# Altium integrated library Atmel Microcontroller megaAVR.IntLib: 654 symbols (part 5 of 29)
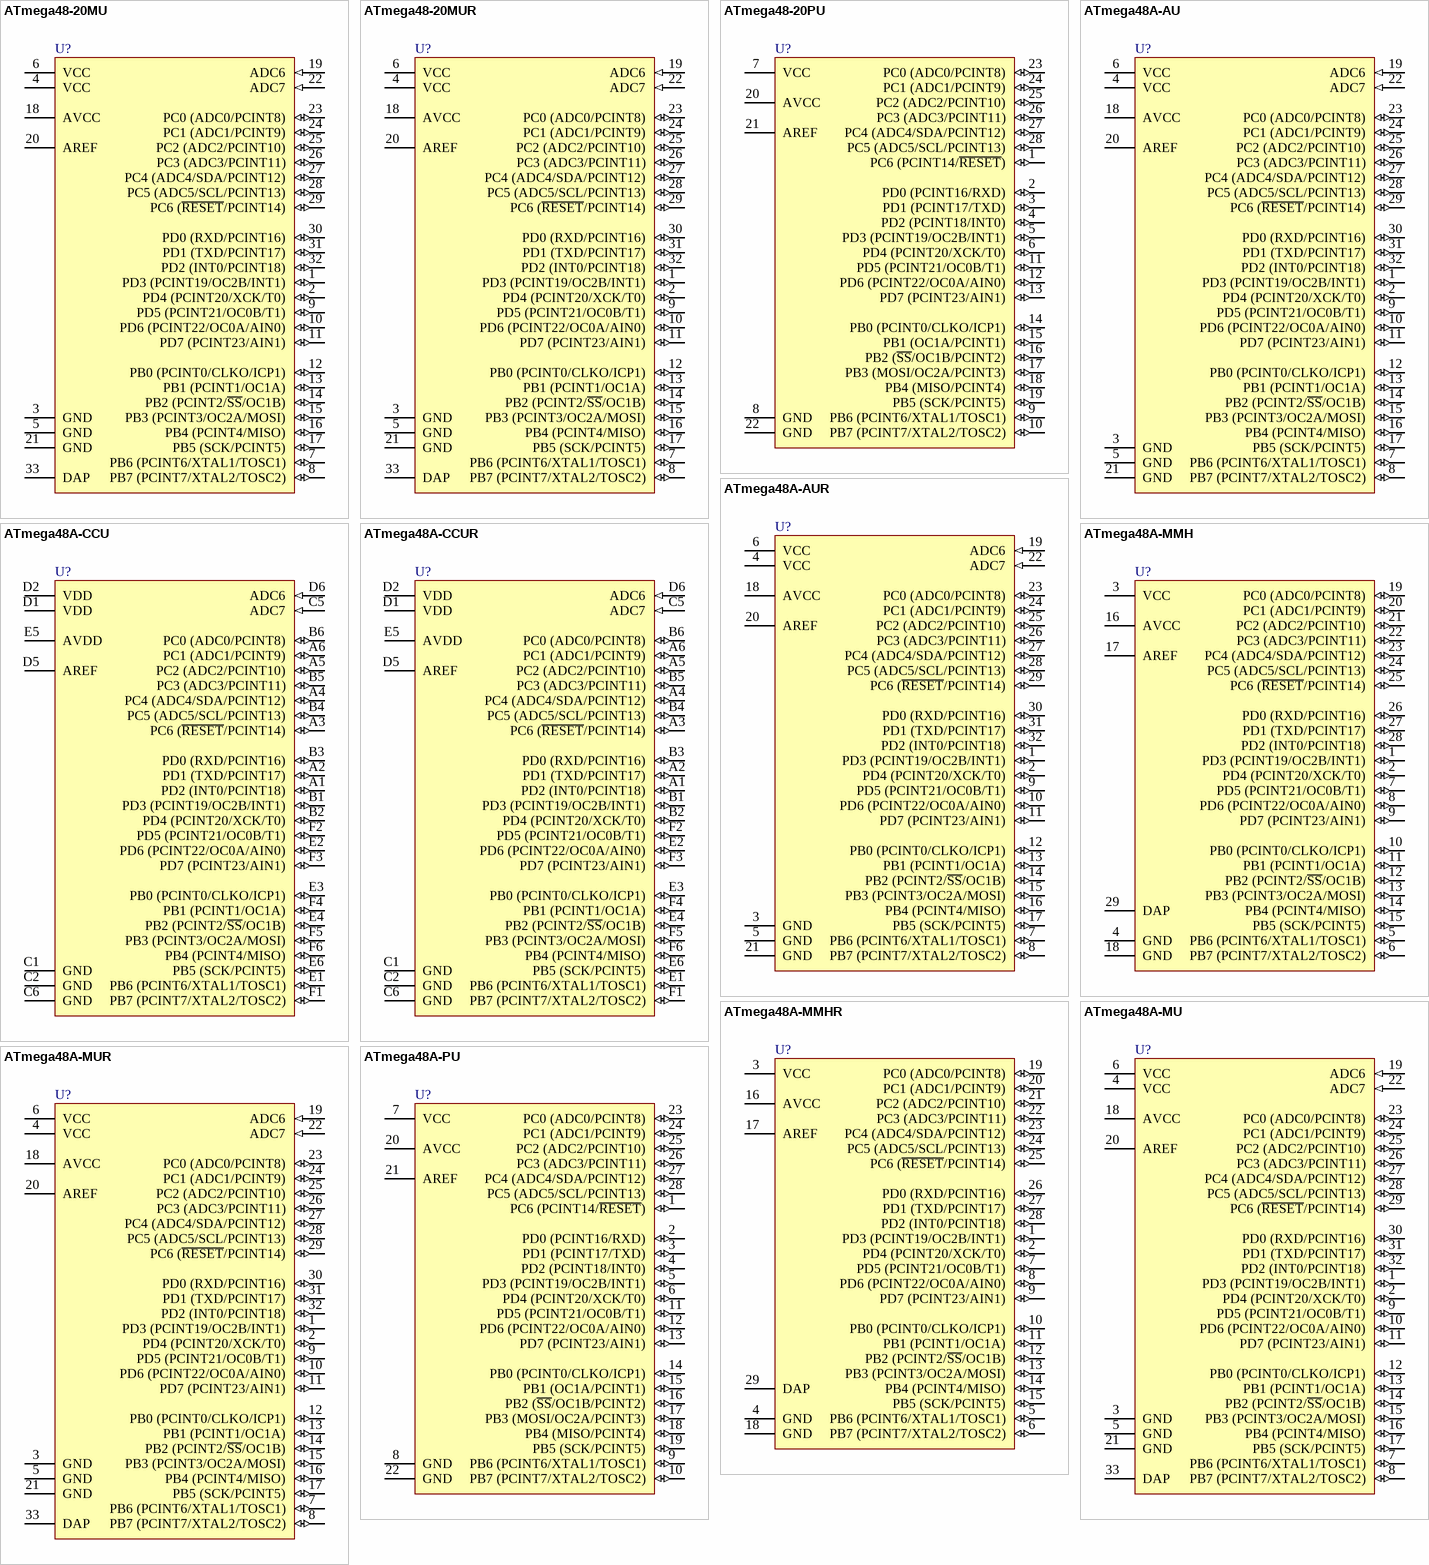
[diagram p91: symbols ATmega48-20MU to ATmega48A-PU]

## ATmega48A-MMHR
designator U?
8-bit AVR Microcontroller, 4KB Flash, 256 Bytes EEPROM, 512 Bytes SRAM, 28-pin VQFN, Industrial Grade (-40°C to 85°C), Reel; DatasheetVersion: revD, May-2011; PackageVersion: revB, Nov-2008; PackageReference: 28M1; PackageDescription: 28-pad, 4x4x1.0mm Body, Pitch 0.45mm, 2.4x2.4mm Exposed Pad, Plastic Very Thin QFN Package (VQFN); ComponentLink1Description: Manufacturer URL; ComponentLink1URL: http://www.atmel.com/; ComponentLink2Description: ATmega48A/48PA/88A/88PA/168A/168PA/328/328P Datasheet; ComponentLink2URL: http://www.atmel.com/dyn/resources/prod_documents/8271.pdf; ComponentLink3Description: ATmega48A/48PA/88A/88PA/168A/168PA/328/328P Summary; ComponentLink3URL: http://www.atmel.com/dyn/resources/prod_documents/8271S.pdf
footprint 28M1_N (QFN, 28-Leads, Body 4x4mm, Pitch 0.45mm, Thermal Pad 2.5x2.5mm, IPC Medium Density)
footprint 28M1_L (QFN, 28-Leads, Body 4x4mm, Pitch 0.45mm, Thermal Pad 2.5x2.5mm, IPC High Density)
footprint 28M1_M (QFN, 28-Leads, Body 4x4mm, Pitch 0.45mm, Thermal Pad 2.5x2.5mm, IPC Low Density)
pins: 1 PD3 (PCINT19/OC2B/INT1) (io), 2 PD4 (PCINT20/XCK/T0) (io), 3 VCC (power), 4 GND (power), 5 PB6 (PCINT6/XTAL1/TOSC1) (io), 6 PB7 (PCINT7/XTAL2/TOSC2) (io), 7 PD5 (PCINT21/OC0B/T1) (io), 8 PD6 (PCINT22/OC0A/AIN0) (io), 9 PD7 (PCINT23/AIN1) (io), 10 PB0 (PCINT0/CLKO/ICP1) (io), 11 PB1 (PCINT1/OC1A) (io), 12 PB2 (PCINT2/~{SS}/OC1B) (io), 13 PB3 (PCINT3/OC2A/MOSI) (io), 14 PB4 (PCINT4/MISO) (io), 15 PB5 (SCK/PCINT5) (io), 16 AVCC (power), 17 AREF (power), 18 GND (power), 19 PC0 (ADC0/PCINT8) (io), 20 PC1 (ADC1/PCINT9) (io), 21 PC2 (ADC2/PCINT10) (io), 22 PC3 (ADC3/PCINT11) (io), 23 PC4 (ADC4/SDA/PCINT12) (io), 24 PC5 (ADC5/SCL/PCINT13) (io), 25 PC6 (~{RESET}/PCINT14) (io), 26 PD0 (RXD/PCINT16) (io), 27 PD1 (TXD/PCINT17) (io), 28 PD2 (INT0/PCINT18) (io), 29 DAP (power)

## ATmega48A-MU
designator U?
8-bit AVR Microcontroller, 4KB Flash, 256 Bytes EEPROM, 512 Bytes SRAM, 32-pin MLF, Industrial Grade (-40°C to 85°C); DatasheetVersion: revD, May-2011; PackageVersion: revE, May-2006; PackageReference: 32M1-A; PackageDescription: 32-Pin Micro Lead Frame Package (MLF),  5 x 5 x 1.0 mm Body, Pitch 0.50 mm, 3.10mm Exposed Pad; Code_JEDEC: MO-220-VHHD-2; ComponentLink1Description: Manufacturer URL; ComponentLink1URL: http://www.atmel.com/; ComponentLink2Description: ATmega48A/48PA/88A/88PA/168A/168PA/328/328P Datasheet; ComponentLink2URL: http://www.atmel.com/dyn/resources/prod_documents/8271.pdf; ComponentLink3Description: ATmega48A/48PA/88A/88PA/168A/168PA/328/328P Summary; ComponentLink3URL: http://www.atmel.com/dyn/resources/prod_documents/8271S.pdf
footprint 32M1-A_N (QFN, 32-Leads, Body 5x5mm, Pitch 0.5mm, Thermal Pad 3.3x3.3mm, IPC Medium Density)
footprint 32M1-A_L (QFN, 32-Leads, Body 5x5mm, Pitch 0.5mm, Thermal Pad 3.3x3.3mm, IPC High Density)
footprint 32M1-A_M (QFN, 32-Leads, Body 5x5mm, Pitch 0.5mm, Thermal Pad 3.3x3.3mm, IPC Low Density)
pins: 1 PD3 (PCINT19/OC2B/INT1) (io), 2 PD4 (PCINT20/XCK/T0) (io), 3 GND (power), 4 VCC (power), 5 GND (power), 6 VCC (power), 7 PB6 (PCINT6/XTAL1/TOSC1) (io), 8 PB7 (PCINT7/XTAL2/TOSC2) (io), 9 PD5 (PCINT21/OC0B/T1) (io), 10 PD6 (PCINT22/OC0A/AIN0) (io), 11 PD7 (PCINT23/AIN1) (io), 12 PB0 (PCINT0/CLKO/ICP1) (io), 13 PB1 (PCINT1/OC1A) (io), 14 PB2 (PCINT2/~{SS}/OC1B) (io), 15 PB3 (PCINT3/OC2A/MOSI) (io), 16 PB4 (PCINT4/MISO) (io), 17 PB5 (SCK/PCINT5) (io), 18 AVCC (power), 19 ADC6 (in), 20 AREF, 21 GND (power), 22 ADC7 (in), 23 PC0 (ADC0/PCINT8) (io), 24 PC1 (ADC1/PCINT9) (io), 25 PC2 (ADC2/PCINT10) (io), 26 PC3 (ADC3/PCINT11) (io), 27 PC4 (ADC4/SDA/PCINT12) (io), 28 PC5 (ADC5/SCL/PCINT13) (io), 29 PC6 (~{RESET}/PCINT14) (io), 30 PD0 (RXD/PCINT16) (io), 31 PD1 (TXD/PCINT17) (io), 32 PD2 (INT0/PCINT18) (io), 33 DAP (power)

## ATmega48A-MUR
designator U?
8-bit AVR Microcontroller, 4KB Flash, 256 Bytes EEPROM, 512 Bytes SRAM, 32-pin MLF, Industrial Grade (-40°C to 85°C), Reel; DatasheetVersion: revD, May-2011; PackageVersion: revE, May-2006; PackageReference: 32M1-A; PackageDescription: 32-Pin Micro Lead Frame Package (MLF),  5 x 5 x 1.0 mm Body, Pitch 0.50 mm, 3.10mm Exposed Pad; Code_JEDEC: MO-220-VHHD-2; ComponentLink1Description: Manufacturer URL; ComponentLink1URL: http://www.atmel.com/; ComponentLink2Description: ATmega48A/48PA/88A/88PA/168A/168PA/328/328P Datasheet; ComponentLink2URL: http://www.atmel.com/dyn/resources/prod_documents/8271.pdf; ComponentLink3Description: ATmega48A/48PA/88A/88PA/168A/168PA/328/328P Summary; ComponentLink3URL: http://www.atmel.com/dyn/resources/prod_documents/8271S.pdf
footprint 32M1-A_N (QFN, 32-Leads, Body 5x5mm, Pitch 0.5mm, Thermal Pad 3.3x3.3mm, IPC Medium Density)
footprint 32M1-A_L (QFN, 32-Leads, Body 5x5mm, Pitch 0.5mm, Thermal Pad 3.3x3.3mm, IPC High Density)
footprint 32M1-A_M (QFN, 32-Leads, Body 5x5mm, Pitch 0.5mm, Thermal Pad 3.3x3.3mm, IPC Low Density)
pins: 1 PD3 (PCINT19/OC2B/INT1) (io), 2 PD4 (PCINT20/XCK/T0) (io), 3 GND (power), 4 VCC (power), 5 GND (power), 6 VCC (power), 7 PB6 (PCINT6/XTAL1/TOSC1) (io), 8 PB7 (PCINT7/XTAL2/TOSC2) (io), 9 PD5 (PCINT21/OC0B/T1) (io), 10 PD6 (PCINT22/OC0A/AIN0) (io), 11 PD7 (PCINT23/AIN1) (io), 12 PB0 (PCINT0/CLKO/ICP1) (io), 13 PB1 (PCINT1/OC1A) (io), 14 PB2 (PCINT2/~{SS}/OC1B) (io), 15 PB3 (PCINT3/OC2A/MOSI) (io), 16 PB4 (PCINT4/MISO) (io), 17 PB5 (SCK/PCINT5) (io), 18 AVCC (power), 19 ADC6 (in), 20 AREF, 21 GND (power), 22 ADC7 (in), 23 PC0 (ADC0/PCINT8) (io), 24 PC1 (ADC1/PCINT9) (io), 25 PC2 (ADC2/PCINT10) (io), 26 PC3 (ADC3/PCINT11) (io), 27 PC4 (ADC4/SDA/PCINT12) (io), 28 PC5 (ADC5/SCL/PCINT13) (io), 29 PC6 (~{RESET}/PCINT14) (io), 30 PD0 (RXD/PCINT16) (io), 31 PD1 (TXD/PCINT17) (io), 32 PD2 (INT0/PCINT18) (io), 33 DAP (power)

## ATmega48A-PU
designator U?
8-bit AVR Microcontroller, 4KB Flash, 256 Bytes EEPROM, 512 Bytes SRAM, 28-pin PDIP, Industrial Grade (-40°C to 85°C); DatasheetVersion: revD, May-2011; PackageVersion: revB, Sep-2001; PackageReference: 28P3; PackageDescription: 28-lead (0.300"/7.62mm Wide) Plastic Dual Inline Package (PDIP); ComponentLink1Description: Manufacturer URL; ComponentLink1URL: http://www.atmel.com/; ComponentLink2Description: ATmega48A/48PA/88A/88PA/168A/168PA/328/328P Datasheet; ComponentLink2URL: http://www.atmel.com/dyn/resources/prod_documents/8271.pdf; ComponentLink3Description: ATmega48A/48PA/88A/88PA/168A/168PA/328/328P Summary; ComponentLink3URL: http://www.atmel.com/dyn/resources/prod_documents/8271S.pdf
footprint 28P3 (DIP, 28-Leads, Row Spacing 7.62mm, Pitch 2.54mm, Body 34.67x7.3mm)
pins: 1 PC6 (PCINT14/~{RESET}) (io), 2 PD0 (PCINT16/RXD) (io), 3 PD1 (PCINT17/TXD) (io), 4 PD2 (PCINT18/INT0) (io), 5 PD3 (PCINT19/OC2B/INT1) (io), 6 PD4 (PCINT20/XCK/T0) (io), 7 VCC (power), 8 GND (power), 9 PB6 (PCINT6/XTAL1/TOSC1) (io), 10 PB7 (PCINT7/XTAL2/TOSC2) (io), 11 PD5 (PCINT21/OC0B/T1) (io), 12 PD6 (PCINT22/OC0A/AIN0) (io), 13 PD7 (PCINT23/AIN1) (io), 14 PB0 (PCINT0/CLKO/ICP1) (io), 15 PB1 (OC1A/PCINT1) (io), 16 PB2 (~{SS}/OC1B/PCINT2) (io), 17 PB3 (MOSI/OC2A/PCINT3) (io), 18 PB4 (MISO/PCINT4) (io), 19 PB5 (SCK/PCINT5) (io), 20 AVCC (power), 21 AREF (power), 22 GND (power), 23 PC0 (ADC0/PCINT8) (io), 24 PC1 (ADC1/PCINT9) (io), 25 PC2 (ADC2/PCINT10) (io), 26 PC3 (ADC3/PCINT11) (io), 27 PC4 (ADC4/SDA/PCINT12) (io), 28 PC5 (ADC5/SCL/PCINT13) (io)

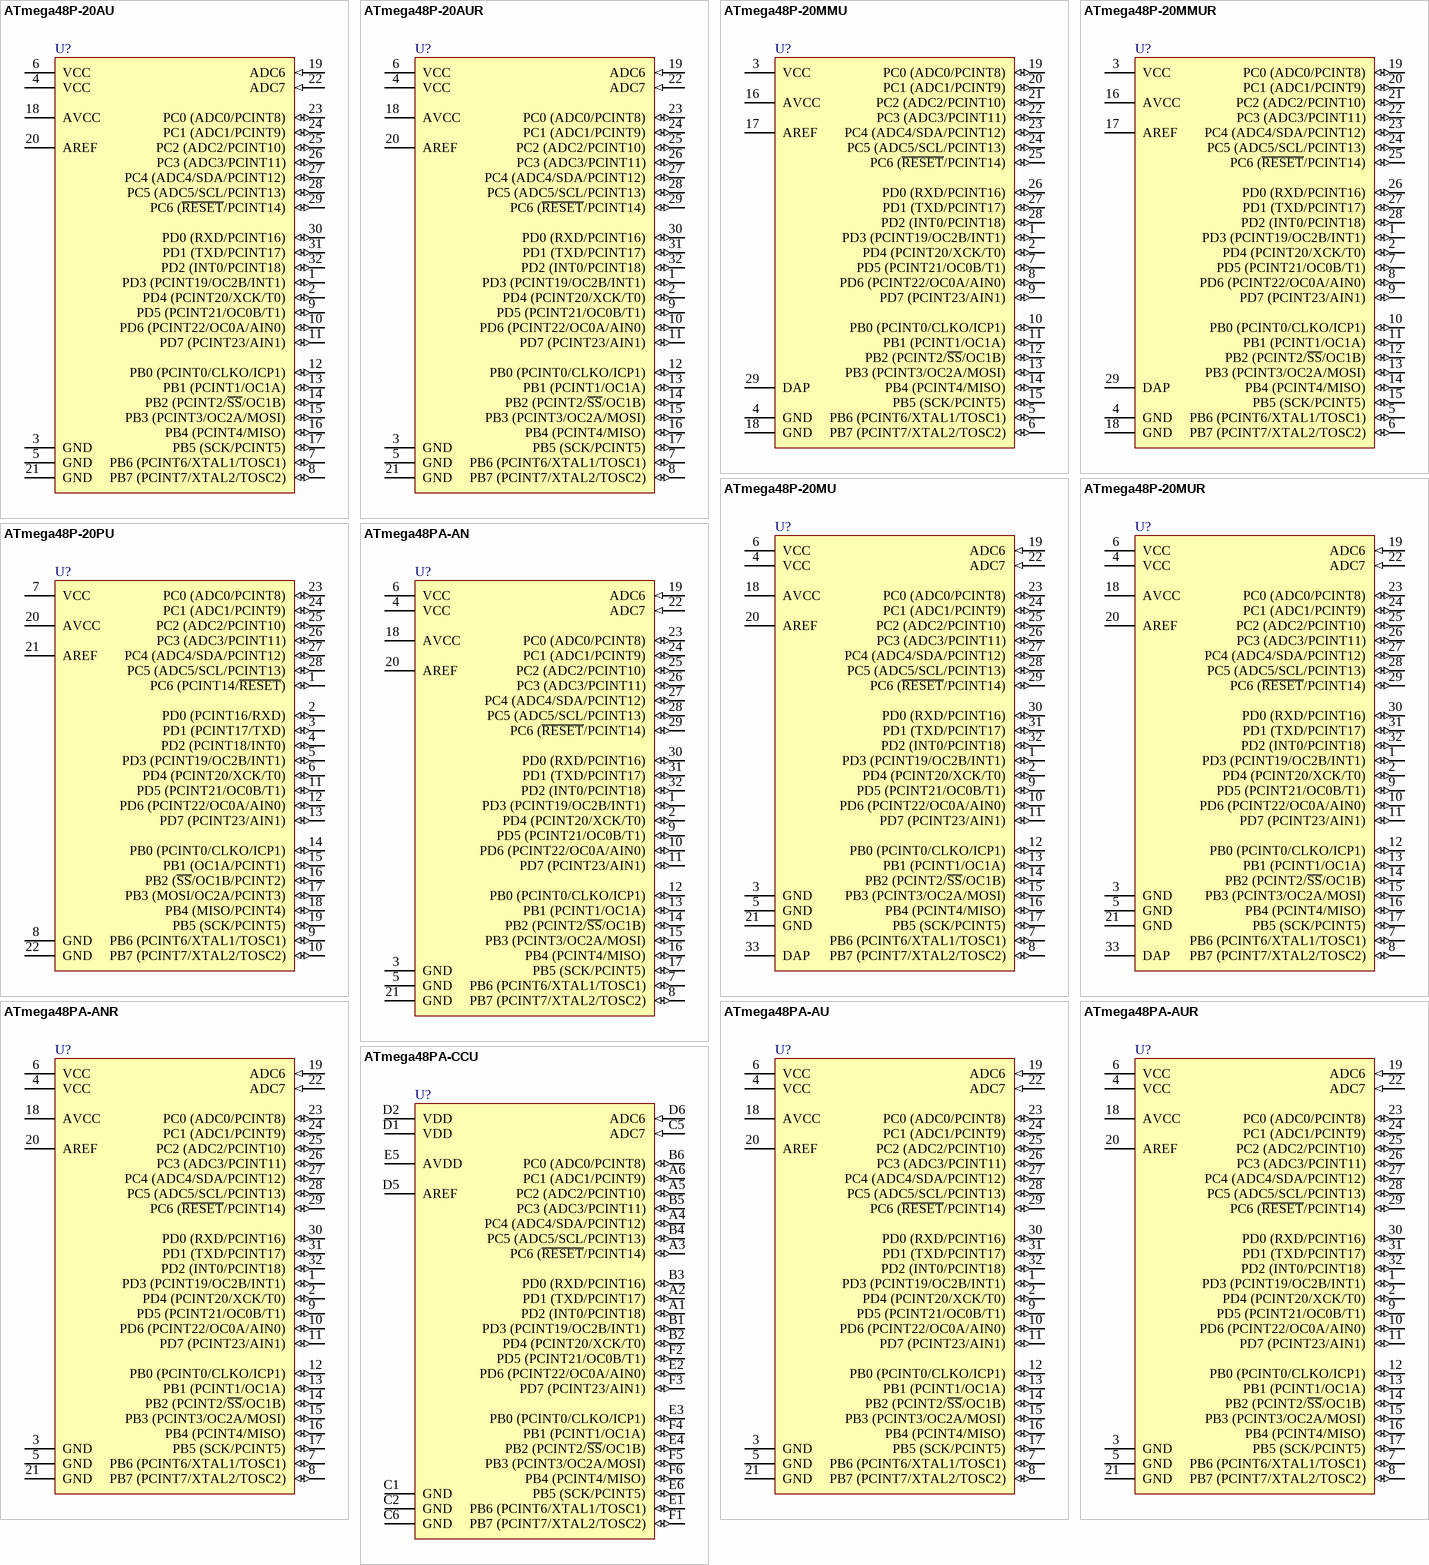
[diagram p11: symbols ATmega48P-20AU to ATmega48PA-CCU]

## ATmega48P-20AU
designator U?
8-bit AVR Microcontroller, picoPower, 2.7-5.5V, 4KB Flash, 256 Bytes EEPROM, 512 Bytes SRAM, 32-pin TQFP, Industrial Grade (-40°C to 85°C); DatasheetVersion: revM Jun-2011; PackageVersion: revC, Oct-2010; PackageReference: 32A; PackageDescription: 32-Lead, 7x7x1.0 mm Body, 0.8mm Lead Pitch, Thin Profile Plastic Quad Flat Package (TQFP); Code_JEDEC: MS-026-ABA; ComponentLink1Description: Manufacturer URL; ComponentLink1URL: http://www.atmel.com/; ComponentLink2Description: ATmega48P/88P/168P Datasheet; ComponentLink2URL: http://www.atmel.com/dyn/resources/prod_documents/doc8025.pdf; ComponentLink3Description: ATmega48P/88P/168P Summary; ComponentLink3URL: http://www.atmel.com/dyn/resources/prod_documents/8025s.pdf
footprint 32A_N (Thin QFP, 32-Leads, Body 7x7mm, Pitch 0.8mm, IPC Medium Density)
footprint 32A_L (Thin QFP, 32-Leads, Body 7x7mm, Pitch 0.8mm, IPC High Density)
footprint 32A_M (Thin QFP, 32-Leads, Body 7x7mm, Pitch 0.8mm, IPC Low Density)
pins: 1 PD3 (PCINT19/OC2B/INT1) (io), 2 PD4 (PCINT20/XCK/T0) (io), 3 GND (power), 4 VCC (power), 5 GND (power), 6 VCC (power), 7 PB6 (PCINT6/XTAL1/TOSC1) (io), 8 PB7 (PCINT7/XTAL2/TOSC2) (io), 9 PD5 (PCINT21/OC0B/T1) (io), 10 PD6 (PCINT22/OC0A/AIN0) (io), 11 PD7 (PCINT23/AIN1) (io), 12 PB0 (PCINT0/CLKO/ICP1) (io), 13 PB1 (PCINT1/OC1A) (io), 14 PB2 (PCINT2/~{SS}/OC1B) (io), 15 PB3 (PCINT3/OC2A/MOSI) (io), 16 PB4 (PCINT4/MISO) (io), 17 PB5 (SCK/PCINT5) (io), 18 AVCC (power), 19 ADC6 (in), 20 AREF, 21 GND (power), 22 ADC7 (in), 23 PC0 (ADC0/PCINT8) (io), 24 PC1 (ADC1/PCINT9) (io), 25 PC2 (ADC2/PCINT10) (io), 26 PC3 (ADC3/PCINT11) (io), 27 PC4 (ADC4/SDA/PCINT12) (io), 28 PC5 (ADC5/SCL/PCINT13) (io), 29 PC6 (~{RESET}/PCINT14) (io), 30 PD0 (RXD/PCINT16) (io), 31 PD1 (TXD/PCINT17) (io), 32 PD2 (INT0/PCINT18) (io)

## ATmega48P-20AUR
designator U?
8-bit AVR Microcontroller, picoPower, 2.7-5.5V, 4KB Flash, 256 Bytes EEPROM, 512 Bytes SRAM, 32-pin TQFP, Industrial Grade (-40°C to 85°C); DatasheetVersion: revM Jun-2011; PackageVersion: revC, Oct-2010; PackageReference: 32A; PackageDescription: 32-Lead, 7x7x1.0 mm Body, 0.8mm Lead Pitch, Thin Profile Plastic Quad Flat Package (TQFP); Code_JEDEC: MS-026-ABA; ComponentLink1Description: Manufacturer URL; ComponentLink1URL: http://www.atmel.com/; ComponentLink2Description: ATmega48P/88P/168P Datasheet; ComponentLink2URL: http://www.atmel.com/dyn/resources/prod_documents/doc8025.pdf; ComponentLink3Description: ATmega48P/88P/168P Summary; ComponentLink3URL: http://www.atmel.com/dyn/resources/prod_documents/8025s.pdf
footprint 32A_N (Thin QFP, 32-Leads, Body 7x7mm, Pitch 0.8mm, IPC Medium Density)
footprint 32A_L (Thin QFP, 32-Leads, Body 7x7mm, Pitch 0.8mm, IPC High Density)
footprint 32A_M (Thin QFP, 32-Leads, Body 7x7mm, Pitch 0.8mm, IPC Low Density)
pins: 1 PD3 (PCINT19/OC2B/INT1) (io), 2 PD4 (PCINT20/XCK/T0) (io), 3 GND (power), 4 VCC (power), 5 GND (power), 6 VCC (power), 7 PB6 (PCINT6/XTAL1/TOSC1) (io), 8 PB7 (PCINT7/XTAL2/TOSC2) (io), 9 PD5 (PCINT21/OC0B/T1) (io), 10 PD6 (PCINT22/OC0A/AIN0) (io), 11 PD7 (PCINT23/AIN1) (io), 12 PB0 (PCINT0/CLKO/ICP1) (io), 13 PB1 (PCINT1/OC1A) (io), 14 PB2 (PCINT2/~{SS}/OC1B) (io), 15 PB3 (PCINT3/OC2A/MOSI) (io), 16 PB4 (PCINT4/MISO) (io), 17 PB5 (SCK/PCINT5) (io), 18 AVCC (power), 19 ADC6 (in), 20 AREF, 21 GND (power), 22 ADC7 (in), 23 PC0 (ADC0/PCINT8) (io), 24 PC1 (ADC1/PCINT9) (io), 25 PC2 (ADC2/PCINT10) (io), 26 PC3 (ADC3/PCINT11) (io), 27 PC4 (ADC4/SDA/PCINT12) (io), 28 PC5 (ADC5/SCL/PCINT13) (io), 29 PC6 (~{RESET}/PCINT14) (io), 30 PD0 (RXD/PCINT16) (io), 31 PD1 (TXD/PCINT17) (io), 32 PD2 (INT0/PCINT18) (io)

## ATmega48P-20MMU
designator U?
8-bit AVR Microcontroller, picoPower, 2.7-5.5V, 4KB Flash, 256 Bytes EEPROM, 512 Bytes SRAM, 28-pin VQFN, Industrial Grade (-40°C to 85°C); DatasheetVersion: revM Jun-2011; PackageVersion: revB, Nov-2008; PackageReference: 28M1; PackageDescription: 28-pad, 4x4x1.0mm Body, Pitch 0.45mm, 2.4x2.4mm Exposed Pad, Plastic Very Thin QFN Package (VQFN); ComponentLink1Description: Manufacturer URL; ComponentLink1URL: http://www.atmel.com/; ComponentLink2Description: ATmega48P/88P/168P Datasheet; ComponentLink2URL: http://www.atmel.com/dyn/resources/prod_documents/doc8025.pdf; ComponentLink3Description: ATmega48P/88P/168P Summary; ComponentLink3URL: http://www.atmel.com/dyn/resources/prod_documents/8025s.pdf
footprint 28M1_N (QFN, 28-Leads, Body 4x4mm, Pitch 0.45mm, Thermal Pad 2.5x2.5mm, IPC Medium Density)
footprint 28M1_L (QFN, 28-Leads, Body 4x4mm, Pitch 0.45mm, Thermal Pad 2.5x2.5mm, IPC High Density)
footprint 28M1_M (QFN, 28-Leads, Body 4x4mm, Pitch 0.45mm, Thermal Pad 2.5x2.5mm, IPC Low Density)
pins: 1 PD3 (PCINT19/OC2B/INT1) (io), 2 PD4 (PCINT20/XCK/T0) (io), 3 VCC (power), 4 GND (power), 5 PB6 (PCINT6/XTAL1/TOSC1) (io), 6 PB7 (PCINT7/XTAL2/TOSC2) (io), 7 PD5 (PCINT21/OC0B/T1) (io), 8 PD6 (PCINT22/OC0A/AIN0) (io), 9 PD7 (PCINT23/AIN1) (io), 10 PB0 (PCINT0/CLKO/ICP1) (io), 11 PB1 (PCINT1/OC1A) (io), 12 PB2 (PCINT2/~{SS}/OC1B) (io), 13 PB3 (PCINT3/OC2A/MOSI) (io), 14 PB4 (PCINT4/MISO) (io), 15 PB5 (SCK/PCINT5) (io), 16 AVCC (power), 17 AREF (power), 18 GND (power), 19 PC0 (ADC0/PCINT8) (io), 20 PC1 (ADC1/PCINT9) (io), 21 PC2 (ADC2/PCINT10) (io), 22 PC3 (ADC3/PCINT11) (io), 23 PC4 (ADC4/SDA/PCINT12) (io), 24 PC5 (ADC5/SCL/PCINT13) (io), 25 PC6 (~{RESET}/PCINT14) (io), 26 PD0 (RXD/PCINT16) (io), 27 PD1 (TXD/PCINT17) (io), 28 PD2 (INT0/PCINT18) (io), 29 DAP (power)

## ATmega48P-20MMUR
designator U?
8-bit AVR Microcontroller, picoPower, 2.7-5.5V, 4KB Flash, 256 Bytes EEPROM, 512 Bytes SRAM, 28-pin VQFN, Industrial Grade (-40°C to 85°C); DatasheetVersion: revM Jun-2011; PackageVersion: revB, Nov-2008; PackageReference: 28M1; PackageDescription: 28-pad, 4x4x1.0mm Body, Pitch 0.45mm, 2.4x2.4mm Exposed Pad, Plastic Very Thin QFN Package (VQFN); ComponentLink1Description: Manufacturer URL; ComponentLink1URL: http://www.atmel.com/; ComponentLink2Description: ATmega48P/88P/168P Datasheet; ComponentLink2URL: http://www.atmel.com/dyn/resources/prod_documents/doc8025.pdf; ComponentLink3Description: ATmega48P/88P/168P Summary; ComponentLink3URL: http://www.atmel.com/dyn/resources/prod_documents/8025s.pdf
footprint 28M1_N (QFN, 28-Leads, Body 4x4mm, Pitch 0.45mm, Thermal Pad 2.5x2.5mm, IPC Medium Density)
footprint 28M1_L (QFN, 28-Leads, Body 4x4mm, Pitch 0.45mm, Thermal Pad 2.5x2.5mm, IPC High Density)
footprint 28M1_M (QFN, 28-Leads, Body 4x4mm, Pitch 0.45mm, Thermal Pad 2.5x2.5mm, IPC Low Density)
pins: 1 PD3 (PCINT19/OC2B/INT1) (io), 2 PD4 (PCINT20/XCK/T0) (io), 3 VCC (power), 4 GND (power), 5 PB6 (PCINT6/XTAL1/TOSC1) (io), 6 PB7 (PCINT7/XTAL2/TOSC2) (io), 7 PD5 (PCINT21/OC0B/T1) (io), 8 PD6 (PCINT22/OC0A/AIN0) (io), 9 PD7 (PCINT23/AIN1) (io), 10 PB0 (PCINT0/CLKO/ICP1) (io), 11 PB1 (PCINT1/OC1A) (io), 12 PB2 (PCINT2/~{SS}/OC1B) (io), 13 PB3 (PCINT3/OC2A/MOSI) (io), 14 PB4 (PCINT4/MISO) (io), 15 PB5 (SCK/PCINT5) (io), 16 AVCC (power), 17 AREF (power), 18 GND (power), 19 PC0 (ADC0/PCINT8) (io), 20 PC1 (ADC1/PCINT9) (io), 21 PC2 (ADC2/PCINT10) (io), 22 PC3 (ADC3/PCINT11) (io), 23 PC4 (ADC4/SDA/PCINT12) (io), 24 PC5 (ADC5/SCL/PCINT13) (io), 25 PC6 (~{RESET}/PCINT14) (io), 26 PD0 (RXD/PCINT16) (io), 27 PD1 (TXD/PCINT17) (io), 28 PD2 (INT0/PCINT18) (io), 29 DAP (power)

## ATmega48P-20MU
designator U?
8-bit AVR Microcontroller, picoPower, 2.7-5.5V, 4KB Flash, 256 Bytes EEPROM, 512 Bytes SRAM, 32-pin MLF, Industrial Grade (-40°C to 85°C); DatasheetVersion: revM Jun-2011; PackageVersion: revE, May-2006; PackageReference: 32M1-A; PackageDescription: 32-Pin Micro Lead Frame Package (MLF),  5 x 5 x 1.0 mm Body, Pitch 0.50 mm, 3.10mm Exposed Pad; Code_JEDEC: MO-220-VHHD-2; ComponentLink1Description: Manufacturer URL; ComponentLink1URL: http://www.atmel.com/; ComponentLink2Description: ATmega48P/88P/168P Datasheet; ComponentLink2URL: http://www.atmel.com/dyn/resources/prod_documents/doc8025.pdf; ComponentLink3Description: ATmega48P/88P/168P Summary; ComponentLink3URL: http://www.atmel.com/dyn/resources/prod_documents/8025s.pdf
footprint 32M1-A_N (QFN, 32-Leads, Body 5x5mm, Pitch 0.5mm, Thermal Pad 3.3x3.3mm, IPC Medium Density)
footprint 32M1-A_L (QFN, 32-Leads, Body 5x5mm, Pitch 0.5mm, Thermal Pad 3.3x3.3mm, IPC High Density)
footprint 32M1-A_M (QFN, 32-Leads, Body 5x5mm, Pitch 0.5mm, Thermal Pad 3.3x3.3mm, IPC Low Density)
pins: 1 PD3 (PCINT19/OC2B/INT1) (io), 2 PD4 (PCINT20/XCK/T0) (io), 3 GND (power), 4 VCC (power), 5 GND (power), 6 VCC (power), 7 PB6 (PCINT6/XTAL1/TOSC1) (io), 8 PB7 (PCINT7/XTAL2/TOSC2) (io), 9 PD5 (PCINT21/OC0B/T1) (io), 10 PD6 (PCINT22/OC0A/AIN0) (io), 11 PD7 (PCINT23/AIN1) (io), 12 PB0 (PCINT0/CLKO/ICP1) (io), 13 PB1 (PCINT1/OC1A) (io), 14 PB2 (PCINT2/~{SS}/OC1B) (io), 15 PB3 (PCINT3/OC2A/MOSI) (io), 16 PB4 (PCINT4/MISO) (io), 17 PB5 (SCK/PCINT5) (io), 18 AVCC (power), 19 ADC6 (in), 20 AREF, 21 GND (power), 22 ADC7 (in), 23 PC0 (ADC0/PCINT8) (io), 24 PC1 (ADC1/PCINT9) (io), 25 PC2 (ADC2/PCINT10) (io), 26 PC3 (ADC3/PCINT11) (io), 27 PC4 (ADC4/SDA/PCINT12) (io), 28 PC5 (ADC5/SCL/PCINT13) (io), 29 PC6 (~{RESET}/PCINT14) (io), 30 PD0 (RXD/PCINT16) (io), 31 PD1 (TXD/PCINT17) (io), 32 PD2 (INT0/PCINT18) (io), 33 DAP (power)

## ATmega48P-20MUR
designator U?
8-bit AVR Microcontroller, picoPower, 2.7-5.5V, 4KB Flash, 256 Bytes EEPROM, 512 Bytes SRAM, 32-pin MLF, Industrial Grade (-40°C to 85°C); DatasheetVersion: revM Jun-2011; PackageVersion: revE, May-2006; PackageReference: 32M1-A; PackageDescription: 32-Pin Micro Lead Frame Package (MLF),  5 x 5 x 1.0 mm Body, Pitch 0.50 mm, 3.10mm Exposed Pad; Code_JEDEC: MO-220-VHHD-2; ComponentLink1Description: Manufacturer URL; ComponentLink1URL: http://www.atmel.com/; ComponentLink2Description: ATmega48P/88P/168P Datasheet; ComponentLink2URL: http://www.atmel.com/dyn/resources/prod_documents/doc8025.pdf; ComponentLink3Description: ATmega48P/88P/168P Summary; ComponentLink3URL: http://www.atmel.com/dyn/resources/prod_documents/8025s.pdf
footprint 32M1-A_N (QFN, 32-Leads, Body 5x5mm, Pitch 0.5mm, Thermal Pad 3.3x3.3mm, IPC Medium Density)
footprint 32M1-A_L (QFN, 32-Leads, Body 5x5mm, Pitch 0.5mm, Thermal Pad 3.3x3.3mm, IPC High Density)
footprint 32M1-A_M (QFN, 32-Leads, Body 5x5mm, Pitch 0.5mm, Thermal Pad 3.3x3.3mm, IPC Low Density)
pins: 1 PD3 (PCINT19/OC2B/INT1) (io), 2 PD4 (PCINT20/XCK/T0) (io), 3 GND (power), 4 VCC (power), 5 GND (power), 6 VCC (power), 7 PB6 (PCINT6/XTAL1/TOSC1) (io), 8 PB7 (PCINT7/XTAL2/TOSC2) (io), 9 PD5 (PCINT21/OC0B/T1) (io), 10 PD6 (PCINT22/OC0A/AIN0) (io), 11 PD7 (PCINT23/AIN1) (io), 12 PB0 (PCINT0/CLKO/ICP1) (io), 13 PB1 (PCINT1/OC1A) (io), 14 PB2 (PCINT2/~{SS}/OC1B) (io), 15 PB3 (PCINT3/OC2A/MOSI) (io), 16 PB4 (PCINT4/MISO) (io), 17 PB5 (SCK/PCINT5) (io), 18 AVCC (power), 19 ADC6 (in), 20 AREF, 21 GND (power), 22 ADC7 (in), 23 PC0 (ADC0/PCINT8) (io), 24 PC1 (ADC1/PCINT9) (io), 25 PC2 (ADC2/PCINT10) (io), 26 PC3 (ADC3/PCINT11) (io), 27 PC4 (ADC4/SDA/PCINT12) (io), 28 PC5 (ADC5/SCL/PCINT13) (io), 29 PC6 (~{RESET}/PCINT14) (io), 30 PD0 (RXD/PCINT16) (io), 31 PD1 (TXD/PCINT17) (io), 32 PD2 (INT0/PCINT18) (io), 33 DAP (power)

## ATmega48P-20PU
designator U?
8-bit AVR Microcontroller, picoPower, 2.7-5.5V, 4KB Flash, 256 Bytes EEPROM, 512 Bytes SRAM, 28-pin PDIP, Industrial Grade (-40°C to 85°C); DatasheetVersion: revM Jun-2011; PackageVersion: revB, Sep-2001; PackageReference: 28P3; PackageDescription: 28-lead (0.300"/7.62mm Wide) Plastic Dual Inline Package (PDIP); ComponentLink1Description: Manufacturer URL; ComponentLink1URL: http://www.atmel.com/; ComponentLink2Description: ATmega48P/88P/168P Datasheet; ComponentLink2URL: http://www.atmel.com/dyn/resources/prod_documents/doc8025.pdf; ComponentLink3Description: ATmega48P/88P/168P Summary; ComponentLink3URL: http://www.atmel.com/dyn/resources/prod_documents/8025s.pdf
footprint 28P3 (DIP, 28-Leads, Row Spacing 7.62mm, Pitch 2.54mm, Body 34.67x7.3mm)
pins: 1 PC6 (PCINT14/~{RESET}) (io), 2 PD0 (PCINT16/RXD) (io), 3 PD1 (PCINT17/TXD) (io), 4 PD2 (PCINT18/INT0) (io), 5 PD3 (PCINT19/OC2B/INT1) (io), 6 PD4 (PCINT20/XCK/T0) (io), 7 VCC (power), 8 GND (power), 9 PB6 (PCINT6/XTAL1/TOSC1) (io), 10 PB7 (PCINT7/XTAL2/TOSC2) (io), 11 PD5 (PCINT21/OC0B/T1) (io), 12 PD6 (PCINT22/OC0A/AIN0) (io), 13 PD7 (PCINT23/AIN1) (io), 14 PB0 (PCINT0/CLKO/ICP1) (io), 15 PB1 (OC1A/PCINT1) (io), 16 PB2 (~{SS}/OC1B/PCINT2) (io), 17 PB3 (MOSI/OC2A/PCINT3) (io), 18 PB4 (MISO/PCINT4) (io), 19 PB5 (SCK/PCINT5) (io), 20 AVCC (power), 21 AREF (power), 22 GND (power), 23 PC0 (ADC0/PCINT8) (io), 24 PC1 (ADC1/PCINT9) (io), 25 PC2 (ADC2/PCINT10) (io), 26 PC3 (ADC3/PCINT11) (io), 27 PC4 (ADC4/SDA/PCINT12) (io), 28 PC5 (ADC5/SCL/PCINT13) (io)

## ATmega48PA-AN
designator U?
8-bit AVR Microcontroller, 4KB Flash, 256 Bytes EEPROM, 512 Bytes SRAM, 32-pin TQFP, Industrial Grade (-40°C to 105°C); DatasheetVersion: revD, May-2011; PackageVersion: revC, Oct-2010; PackageReference: 32A; PackageDescription: 32-Lead, 7x7x1.0 mm Body, 0.8mm Lead Pitch, Thin Profile Plastic Quad Flat Package (TQFP); Code_JEDEC: MS-026-ABA; ComponentLink1Description: Manufacturer URL; ComponentLink1URL: http://www.atmel.com/; ComponentLink2Description: ATmega48A/48PA/88A/88PA/168A/168PA/328/328P Datasheet; ComponentLink2URL: http://www.atmel.com/dyn/resources/prod_documents/8271.pdf; ComponentLink3Description: ATmega48A/48PA/88A/88PA/168A/168PA/328/328P Summary; ComponentLink3URL: http://www.atmel.com/dyn/resources/prod_documents/8271S.pdf
footprint 32A_N (Thin QFP, 32-Leads, Body 7x7mm, Pitch 0.8mm, IPC Medium Density)
footprint 32A_L (Thin QFP, 32-Leads, Body 7x7mm, Pitch 0.8mm, IPC High Density)
footprint 32A_M (Thin QFP, 32-Leads, Body 7x7mm, Pitch 0.8mm, IPC Low Density)
pins: 1 PD3 (PCINT19/OC2B/INT1) (io), 2 PD4 (PCINT20/XCK/T0) (io), 3 GND (power), 4 VCC (power), 5 GND (power), 6 VCC (power), 7 PB6 (PCINT6/XTAL1/TOSC1) (io), 8 PB7 (PCINT7/XTAL2/TOSC2) (io), 9 PD5 (PCINT21/OC0B/T1) (io), 10 PD6 (PCINT22/OC0A/AIN0) (io), 11 PD7 (PCINT23/AIN1) (io), 12 PB0 (PCINT0/CLKO/ICP1) (io), 13 PB1 (PCINT1/OC1A) (io), 14 PB2 (PCINT2/~{SS}/OC1B) (io), 15 PB3 (PCINT3/OC2A/MOSI) (io), 16 PB4 (PCINT4/MISO) (io), 17 PB5 (SCK/PCINT5) (io), 18 AVCC (power), 19 ADC6 (in), 20 AREF, 21 GND (power), 22 ADC7 (in), 23 PC0 (ADC0/PCINT8) (io), 24 PC1 (ADC1/PCINT9) (io), 25 PC2 (ADC2/PCINT10) (io), 26 PC3 (ADC3/PCINT11) (io), 27 PC4 (ADC4/SDA/PCINT12) (io), 28 PC5 (ADC5/SCL/PCINT13) (io), 29 PC6 (~{RESET}/PCINT14) (io), 30 PD0 (RXD/PCINT16) (io), 31 PD1 (TXD/PCINT17) (io), 32 PD2 (INT0/PCINT18) (io)

## ATmega48PA-ANR
designator U?
8-bit AVR Microcontroller, 4KB Flash, 256 Bytes EEPROM, 512 Bytes SRAM, 32-pin TQFP, Industrial Grade (-40°C to 105°C), Reel; DatasheetVersion: revD, May-2011; PackageVersion: revC, Oct-2010; PackageReference: 32A; PackageDescription: 32-Lead, 7x7x1.0 mm Body, 0.8mm Lead Pitch, Thin Profile Plastic Quad Flat Package (TQFP); Code_JEDEC: MS-026-ABA; ComponentLink1Description: Manufacturer URL; ComponentLink1URL: http://www.atmel.com/; ComponentLink2Description: ATmega48A/48PA/88A/88PA/168A/168PA/328/328P Datasheet; ComponentLink2URL: http://www.atmel.com/dyn/resources/prod_documents/8271.pdf; ComponentLink3Description: ATmega48A/48PA/88A/88PA/168A/168PA/328/328P Summary; ComponentLink3URL: http://www.atmel.com/dyn/resources/prod_documents/8271S.pdf
footprint 32A_N (Thin QFP, 32-Leads, Body 7x7mm, Pitch 0.8mm, IPC Medium Density)
footprint 32A_L (Thin QFP, 32-Leads, Body 7x7mm, Pitch 0.8mm, IPC High Density)
footprint 32A_M (Thin QFP, 32-Leads, Body 7x7mm, Pitch 0.8mm, IPC Low Density)
pins: 1 PD3 (PCINT19/OC2B/INT1) (io), 2 PD4 (PCINT20/XCK/T0) (io), 3 GND (power), 4 VCC (power), 5 GND (power), 6 VCC (power), 7 PB6 (PCINT6/XTAL1/TOSC1) (io), 8 PB7 (PCINT7/XTAL2/TOSC2) (io), 9 PD5 (PCINT21/OC0B/T1) (io), 10 PD6 (PCINT22/OC0A/AIN0) (io), 11 PD7 (PCINT23/AIN1) (io), 12 PB0 (PCINT0/CLKO/ICP1) (io), 13 PB1 (PCINT1/OC1A) (io), 14 PB2 (PCINT2/~{SS}/OC1B) (io), 15 PB3 (PCINT3/OC2A/MOSI) (io), 16 PB4 (PCINT4/MISO) (io), 17 PB5 (SCK/PCINT5) (io), 18 AVCC (power), 19 ADC6 (in), 20 AREF, 21 GND (power), 22 ADC7 (in), 23 PC0 (ADC0/PCINT8) (io), 24 PC1 (ADC1/PCINT9) (io), 25 PC2 (ADC2/PCINT10) (io), 26 PC3 (ADC3/PCINT11) (io), 27 PC4 (ADC4/SDA/PCINT12) (io), 28 PC5 (ADC5/SCL/PCINT13) (io), 29 PC6 (~{RESET}/PCINT14) (io), 30 PD0 (RXD/PCINT16) (io), 31 PD1 (TXD/PCINT17) (io), 32 PD2 (INT0/PCINT18) (io)

## ATmega48PA-AU
designator U?
8-bit AVR Microcontroller, 4KB Flash, 256 Bytes EEPROM, 512 Bytes SRAM, 32-pin TQFP, Industrial Grade (-40°C to 85°C); DatasheetVersion: revD, May-2011; PackageVersion: revC, Oct-2010; PackageReference: 32A; PackageDescription: 32-Lead, 7x7x1.0 mm Body, 0.8mm Lead Pitch, Thin Profile Plastic Quad Flat Package (TQFP); Code_JEDEC: MS-026-ABA; ComponentLink1Description: Manufacturer URL; ComponentLink1URL: http://www.atmel.com/; ComponentLink2Description: ATmega48A/48PA/88A/88PA/168A/168PA/328/328P Datasheet; ComponentLink2URL: http://www.atmel.com/dyn/resources/prod_documents/doc8271.pdf; ComponentLink3Description: ATmega48A/48PA/88A/88PA/168A/168PA/328/328P Summary; ComponentLink3URL: http://www.atmel.com/dyn/resources/prod_documents/8271S.pdf
footprint 32A_N (Thin QFP, 32-Leads, Body 7x7mm, Pitch 0.8mm, IPC Medium Density)
footprint 32A_L (Thin QFP, 32-Leads, Body 7x7mm, Pitch 0.8mm, IPC High Density)
footprint 32A_M (Thin QFP, 32-Leads, Body 7x7mm, Pitch 0.8mm, IPC Low Density)
pins: 1 PD3 (PCINT19/OC2B/INT1) (io), 2 PD4 (PCINT20/XCK/T0) (io), 3 GND (power), 4 VCC (power), 5 GND (power), 6 VCC (power), 7 PB6 (PCINT6/XTAL1/TOSC1) (io), 8 PB7 (PCINT7/XTAL2/TOSC2) (io), 9 PD5 (PCINT21/OC0B/T1) (io), 10 PD6 (PCINT22/OC0A/AIN0) (io), 11 PD7 (PCINT23/AIN1) (io), 12 PB0 (PCINT0/CLKO/ICP1) (io), 13 PB1 (PCINT1/OC1A) (io), 14 PB2 (PCINT2/~{SS}/OC1B) (io), 15 PB3 (PCINT3/OC2A/MOSI) (io), 16 PB4 (PCINT4/MISO) (io), 17 PB5 (SCK/PCINT5) (io), 18 AVCC (power), 19 ADC6 (in), 20 AREF, 21 GND (power), 22 ADC7 (in), 23 PC0 (ADC0/PCINT8) (io), 24 PC1 (ADC1/PCINT9) (io), 25 PC2 (ADC2/PCINT10) (io), 26 PC3 (ADC3/PCINT11) (io), 27 PC4 (ADC4/SDA/PCINT12) (io), 28 PC5 (ADC5/SCL/PCINT13) (io), 29 PC6 (~{RESET}/PCINT14) (io), 30 PD0 (RXD/PCINT16) (io), 31 PD1 (TXD/PCINT17) (io), 32 PD2 (INT0/PCINT18) (io)

## ATmega48PA-AUR
designator U?
8-bit AVR Microcontroller, 4KB Flash, 256 Bytes EEPROM, 512 Bytes SRAM, 32-pin TQFP, Industrial Grade (-40°C to 85°C), Reel; DatasheetVersion: revD, May-2011; PackageVersion: revC, Oct-2010; PackageReference: 32A; PackageDescription: 32-Lead, 7x7x1.0 mm Body, 0.8mm Lead Pitch, Thin Profile Plastic Quad Flat Package (TQFP); Code_JEDEC: MS-026-ABA; ComponentLink1Description: Manufacturer URL; ComponentLink1URL: http://www.atmel.com/; ComponentLink2Description: ATmega48A/48PA/88A/88PA/168A/168PA/328/328P Datasheet; ComponentLink2URL: http://www.atmel.com/dyn/resources/prod_documents/doc8271.pdf; ComponentLink3Description: ATmega48A/48PA/88A/88PA/168A/168PA/328/328P Summary; ComponentLink3URL: http://www.atmel.com/dyn/resources/prod_documents/8271S.pdf
footprint 32A_N (Thin QFP, 32-Leads, Body 7x7mm, Pitch 0.8mm, IPC Medium Density)
footprint 32A_L (Thin QFP, 32-Leads, Body 7x7mm, Pitch 0.8mm, IPC High Density)
footprint 32A_M (Thin QFP, 32-Leads, Body 7x7mm, Pitch 0.8mm, IPC Low Density)
pins: 1 PD3 (PCINT19/OC2B/INT1) (io), 2 PD4 (PCINT20/XCK/T0) (io), 3 GND (power), 4 VCC (power), 5 GND (power), 6 VCC (power), 7 PB6 (PCINT6/XTAL1/TOSC1) (io), 8 PB7 (PCINT7/XTAL2/TOSC2) (io), 9 PD5 (PCINT21/OC0B/T1) (io), 10 PD6 (PCINT22/OC0A/AIN0) (io), 11 PD7 (PCINT23/AIN1) (io), 12 PB0 (PCINT0/CLKO/ICP1) (io), 13 PB1 (PCINT1/OC1A) (io), 14 PB2 (PCINT2/~{SS}/OC1B) (io), 15 PB3 (PCINT3/OC2A/MOSI) (io), 16 PB4 (PCINT4/MISO) (io), 17 PB5 (SCK/PCINT5) (io), 18 AVCC (power), 19 ADC6 (in), 20 AREF, 21 GND (power), 22 ADC7 (in), 23 PC0 (ADC0/PCINT8) (io), 24 PC1 (ADC1/PCINT9) (io), 25 PC2 (ADC2/PCINT10) (io), 26 PC3 (ADC3/PCINT11) (io), 27 PC4 (ADC4/SDA/PCINT12) (io), 28 PC5 (ADC5/SCL/PCINT13) (io), 29 PC6 (~{RESET}/PCINT14) (io), 30 PD0 (RXD/PCINT16) (io), 31 PD1 (TXD/PCINT17) (io), 32 PD2 (INT0/PCINT18) (io)

## ATmega48PA-CCU
designator U?
8-bit AVR Microcontroller, 4KB Flash, 256 Bytes EEPROM, 512 Bytes SRAM, 32-pin UFBGA, Industrial Grade (-40°C to 85°C); DatasheetVersion: revD, May-2011; PackageVersion: revB, Jun-2010; PackageReference: 32CC1; PackageDescription: 32-Ball Ultra Thin, Fine-Pitch BGA (6x6 Array) 4x4x0.6mm Body, 0.5mm Pitch (UFBGA); ComponentLink1Description: Manufacturer URL; ComponentLink1URL: http://www.atmel.com/; ComponentLink2Description: ATmega48A/48PA/88A/88PA/168A/168PA/328/328P Datasheet; ComponentLink2URL: http://www.atmel.com/dyn/resources/prod_documents/8271.pdf; ComponentLink3Description: ATmega48A/48PA/88A/88PA/168A/168PA/328/328P Summary; ComponentLink3URL: http://www.atmel.com/dyn/resources/prod_documents/8271S.pdf
footprint 32CC1 (BGA, 34-Leads, Body 4x4mm, Pitch 0.5mm)
pins: A1 PD2 (INT0/PCINT18) (io), A2 PD1 (TXD/PCINT17) (io), A3 PC6 (~{RESET}/PCINT14) (io), A4 PC4 (ADC4/SDA/PCINT12) (io), A5 PC2 (ADC2/PCINT10) (io), A6 PC1 (ADC1/PCINT9) (io), B1 PD3 (PCINT19/OC2B/INT1) (io), B2 PD4 (PCINT20/XCK/T0) (io), B3 PD0 (RXD/PCINT16) (io), B4 PC5 (ADC5/SCL/PCINT13) (io), B5 PC3 (ADC3/PCINT11) (io), B6 PC0 (ADC0/PCINT8) (io), C1 GND (power), C2 GND (power), C5 ADC7 (in), C6 GND (power), D1 VDD (power), D2 VDD (power), D5 AREF, D6 ADC6 (in), E1 PB6 (PCINT6/XTAL1/TOSC1) (io), E2 PD6 (PCINT22/OC0A/AIN0) (io), E3 PB0 (PCINT0/CLKO/ICP1) (io), E4 PB2 (PCINT2/~{SS}/OC1B) (io), E5 AVDD (power), E6 PB5 (SCK/PCINT5) (io), F1 PB7 (PCINT7/XTAL2/TOSC2) (io), F2 PD5 (PCINT21/OC0B/T1) (io), F3 PD7 (PCINT23/AIN1) (io), F4 PB1 (PCINT1/OC1A) (io), F5 PB3 (PCINT3/OC2A/MOSI) (io), F6 PB4 (PCINT4/MISO) (io)

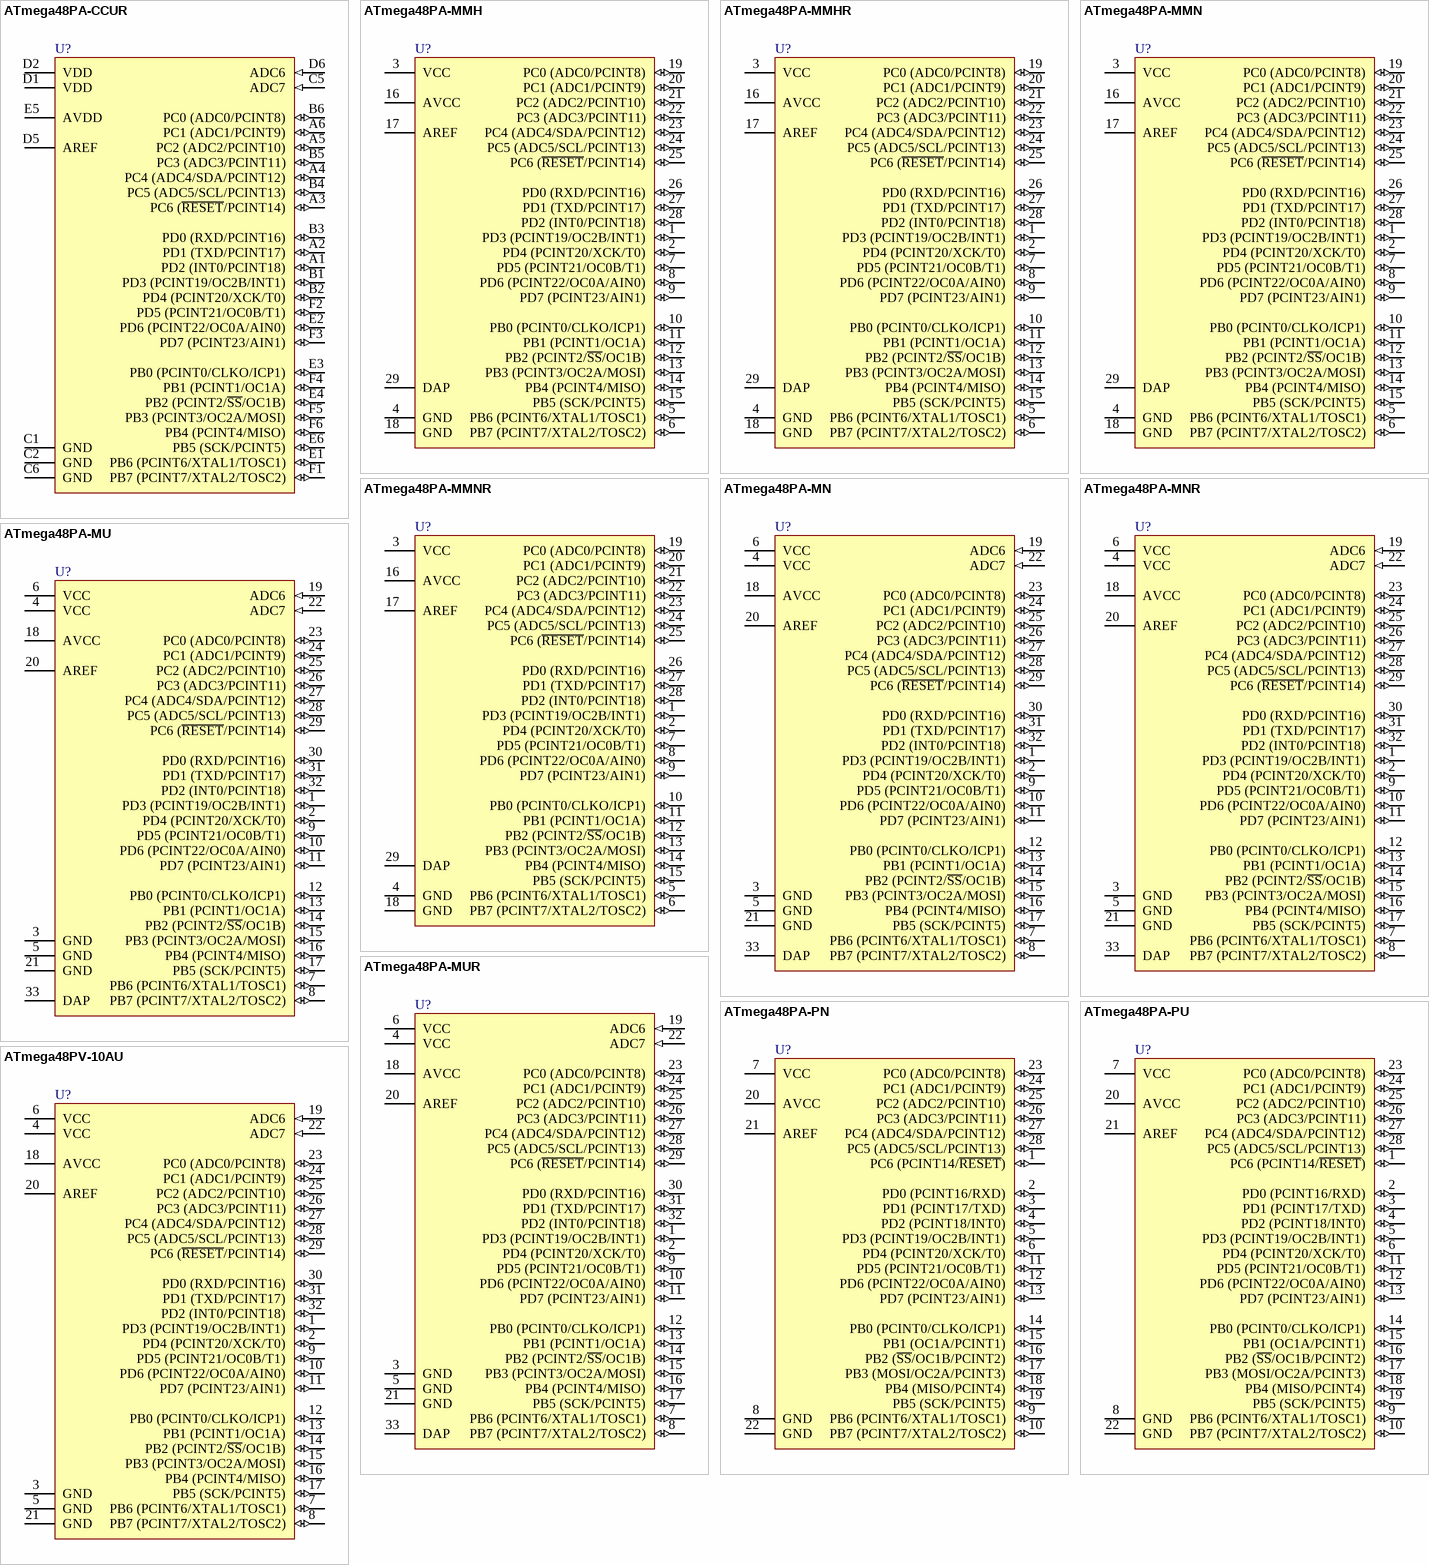
[diagram p12: symbols ATmega48PA-CCUR to ATmega48PV-10AU]

## ATmega48PA-CCUR
designator U?
8-bit AVR Microcontroller, 4KB Flash, 256 Bytes EEPROM, 512 Bytes SRAM, 32-pin UFBGA, Industrial Grade (-40°C to 85°C), Reel; DatasheetVersion: revD, May-2011; PackageVersion: revB, Jun-2010; PackageReference: 32CC1; PackageDescription: 32-Ball Ultra Thin, Fine-Pitch BGA (6x6 Array) 4x4x0.6mm Body, 0.5mm Pitch (UFBGA); ComponentLink1Description: Manufacturer URL; ComponentLink1URL: http://www.atmel.com/; ComponentLink2Description: ATmega48A/48PA/88A/88PA/168A/168PA/328/328P Datasheet; ComponentLink2URL: http://www.atmel.com/dyn/resources/prod_documents/8271.pdf; ComponentLink3Description: ATmega48A/48PA/88A/88PA/168A/168PA/328/328P Summary; ComponentLink3URL: http://www.atmel.com/dyn/resources/prod_documents/8271S.pdf
footprint 32CC1 (BGA, 34-Leads, Body 4x4mm, Pitch 0.5mm)
pins: A1 PD2 (INT0/PCINT18) (io), A2 PD1 (TXD/PCINT17) (io), A3 PC6 (~{RESET}/PCINT14) (io), A4 PC4 (ADC4/SDA/PCINT12) (io), A5 PC2 (ADC2/PCINT10) (io), A6 PC1 (ADC1/PCINT9) (io), B1 PD3 (PCINT19/OC2B/INT1) (io), B2 PD4 (PCINT20/XCK/T0) (io), B3 PD0 (RXD/PCINT16) (io), B4 PC5 (ADC5/SCL/PCINT13) (io), B5 PC3 (ADC3/PCINT11) (io), B6 PC0 (ADC0/PCINT8) (io), C1 GND (power), C2 GND (power), C5 ADC7 (in), C6 GND (power), D1 VDD (power), D2 VDD (power), D5 AREF, D6 ADC6 (in), E1 PB6 (PCINT6/XTAL1/TOSC1) (io), E2 PD6 (PCINT22/OC0A/AIN0) (io), E3 PB0 (PCINT0/CLKO/ICP1) (io), E4 PB2 (PCINT2/~{SS}/OC1B) (io), E5 AVDD (power), E6 PB5 (SCK/PCINT5) (io), F1 PB7 (PCINT7/XTAL2/TOSC2) (io), F2 PD5 (PCINT21/OC0B/T1) (io), F3 PD7 (PCINT23/AIN1) (io), F4 PB1 (PCINT1/OC1A) (io), F5 PB3 (PCINT3/OC2A/MOSI) (io), F6 PB4 (PCINT4/MISO) (io)

## ATmega48PA-MMH
designator U?
8-bit AVR Microcontroller, 4KB Flash, 256 Bytes EEPROM, 512 Bytes SRAM, 28-pin VQFN, Industrial Grade (-40°C to 85°C); DatasheetVersion: revD, May-2011; PackageVersion: revB, Nov-2008; PackageReference: 28M1; PackageDescription: 28-pad, 4x4x1.0mm Body, Pitch 0.45mm, 2.4x2.4mm Exposed Pad, Plastic Very Thin QFN Package (VQFN); ComponentLink1Description: Manufacturer URL; ComponentLink1URL: http://www.atmel.com/; ComponentLink2Description: ATmega48A/48PA/88A/88PA/168A/168PA/328/328P Datasheet; ComponentLink2URL: http://www.atmel.com/dyn/resources/prod_documents/8271.pdf; ComponentLink3Description: ATmega48A/48PA/88A/88PA/168A/168PA/328/328P Summary; ComponentLink3URL: http://www.atmel.com/dyn/resources/prod_documents/8271S.pdf
footprint 28M1_N (QFN, 28-Leads, Body 4x4mm, Pitch 0.45mm, Thermal Pad 2.5x2.5mm, IPC Medium Density)
footprint 28M1_L (QFN, 28-Leads, Body 4x4mm, Pitch 0.45mm, Thermal Pad 2.5x2.5mm, IPC High Density)
footprint 28M1_M (QFN, 28-Leads, Body 4x4mm, Pitch 0.45mm, Thermal Pad 2.5x2.5mm, IPC Low Density)
pins: 1 PD3 (PCINT19/OC2B/INT1) (io), 2 PD4 (PCINT20/XCK/T0) (io), 3 VCC (power), 4 GND (power), 5 PB6 (PCINT6/XTAL1/TOSC1) (io), 6 PB7 (PCINT7/XTAL2/TOSC2) (io), 7 PD5 (PCINT21/OC0B/T1) (io), 8 PD6 (PCINT22/OC0A/AIN0) (io), 9 PD7 (PCINT23/AIN1) (io), 10 PB0 (PCINT0/CLKO/ICP1) (io), 11 PB1 (PCINT1/OC1A) (io), 12 PB2 (PCINT2/~{SS}/OC1B) (io), 13 PB3 (PCINT3/OC2A/MOSI) (io), 14 PB4 (PCINT4/MISO) (io), 15 PB5 (SCK/PCINT5) (io), 16 AVCC (power), 17 AREF (power), 18 GND (power), 19 PC0 (ADC0/PCINT8) (io), 20 PC1 (ADC1/PCINT9) (io), 21 PC2 (ADC2/PCINT10) (io), 22 PC3 (ADC3/PCINT11) (io), 23 PC4 (ADC4/SDA/PCINT12) (io), 24 PC5 (ADC5/SCL/PCINT13) (io), 25 PC6 (~{RESET}/PCINT14) (io), 26 PD0 (RXD/PCINT16) (io), 27 PD1 (TXD/PCINT17) (io), 28 PD2 (INT0/PCINT18) (io), 29 DAP (power)

## ATmega48PA-MMHR
designator U?
8-bit AVR Microcontroller, 4KB Flash, 256 Bytes EEPROM, 512 Bytes SRAM, 28-pin VQFN, Industrial Grade (-40°C to 85°C), Reel; DatasheetVersion: revD, May-2011; PackageVersion: revB, Nov-2008; PackageReference: 28M1; PackageDescription: 28-pad, 4x4x1.0mm Body, Pitch 0.45mm, 2.4x2.4mm Exposed Pad, Plastic Very Thin QFN Package (VQFN); ComponentLink1Description: Manufacturer URL; ComponentLink1URL: http://www.atmel.com/; ComponentLink2Description: ATmega48A/48PA/88A/88PA/168A/168PA/328/328P Datasheet; ComponentLink2URL: http://www.atmel.com/dyn/resources/prod_documents/8271.pdf; ComponentLink3Description: ATmega48A/48PA/88A/88PA/168A/168PA/328/328P Summary; ComponentLink3URL: http://www.atmel.com/dyn/resources/prod_documents/8271S.pdf
footprint 28M1_N (QFN, 28-Leads, Body 4x4mm, Pitch 0.45mm, Thermal Pad 2.5x2.5mm, IPC Medium Density)
footprint 28M1_L (QFN, 28-Leads, Body 4x4mm, Pitch 0.45mm, Thermal Pad 2.5x2.5mm, IPC High Density)
footprint 28M1_M (QFN, 28-Leads, Body 4x4mm, Pitch 0.45mm, Thermal Pad 2.5x2.5mm, IPC Low Density)
pins: 1 PD3 (PCINT19/OC2B/INT1) (io), 2 PD4 (PCINT20/XCK/T0) (io), 3 VCC (power), 4 GND (power), 5 PB6 (PCINT6/XTAL1/TOSC1) (io), 6 PB7 (PCINT7/XTAL2/TOSC2) (io), 7 PD5 (PCINT21/OC0B/T1) (io), 8 PD6 (PCINT22/OC0A/AIN0) (io), 9 PD7 (PCINT23/AIN1) (io), 10 PB0 (PCINT0/CLKO/ICP1) (io), 11 PB1 (PCINT1/OC1A) (io), 12 PB2 (PCINT2/~{SS}/OC1B) (io), 13 PB3 (PCINT3/OC2A/MOSI) (io), 14 PB4 (PCINT4/MISO) (io), 15 PB5 (SCK/PCINT5) (io), 16 AVCC (power), 17 AREF (power), 18 GND (power), 19 PC0 (ADC0/PCINT8) (io), 20 PC1 (ADC1/PCINT9) (io), 21 PC2 (ADC2/PCINT10) (io), 22 PC3 (ADC3/PCINT11) (io), 23 PC4 (ADC4/SDA/PCINT12) (io), 24 PC5 (ADC5/SCL/PCINT13) (io), 25 PC6 (~{RESET}/PCINT14) (io), 26 PD0 (RXD/PCINT16) (io), 27 PD1 (TXD/PCINT17) (io), 28 PD2 (INT0/PCINT18) (io), 29 DAP (power)

## ATmega48PA-MMN
designator U?
8-bit AVR Microcontroller, 4KB Flash, 256 Bytes EEPROM, 512 Bytes SRAM, 28-pin VQFN, Industrial Grade (-40°C to 105°C); DatasheetVersion: revD, May-2011; PackageVersion: revB, Nov-2008; PackageReference: 28M1; PackageDescription: 28-pad, 4x4x1.0mm Body, Pitch 0.45mm, 2.4x2.4mm Exposed Pad, Plastic Very Thin QFN Package (VQFN); ComponentLink1Description: Manufacturer URL; ComponentLink1URL: http://www.atmel.com/; ComponentLink2Description: ATmega48A/48PA/88A/88PA/168A/168PA/328/328P Datasheet; ComponentLink2URL: http://www.atmel.com/dyn/resources/prod_documents/8271.pdf; ComponentLink3Description: ATmega48A/48PA/88A/88PA/168A/168PA/328/328P Summary; ComponentLink3URL: http://www.atmel.com/dyn/resources/prod_documents/8271S.pdf
footprint 28M1_N (QFN, 28-Leads, Body 4x4mm, Pitch 0.45mm, Thermal Pad 2.5x2.5mm, IPC Medium Density)
footprint 28M1_L (QFN, 28-Leads, Body 4x4mm, Pitch 0.45mm, Thermal Pad 2.5x2.5mm, IPC High Density)
footprint 28M1_M (QFN, 28-Leads, Body 4x4mm, Pitch 0.45mm, Thermal Pad 2.5x2.5mm, IPC Low Density)
pins: 1 PD3 (PCINT19/OC2B/INT1) (io), 2 PD4 (PCINT20/XCK/T0) (io), 3 VCC (power), 4 GND (power), 5 PB6 (PCINT6/XTAL1/TOSC1) (io), 6 PB7 (PCINT7/XTAL2/TOSC2) (io), 7 PD5 (PCINT21/OC0B/T1) (io), 8 PD6 (PCINT22/OC0A/AIN0) (io), 9 PD7 (PCINT23/AIN1) (io), 10 PB0 (PCINT0/CLKO/ICP1) (io), 11 PB1 (PCINT1/OC1A) (io), 12 PB2 (PCINT2/~{SS}/OC1B) (io), 13 PB3 (PCINT3/OC2A/MOSI) (io), 14 PB4 (PCINT4/MISO) (io), 15 PB5 (SCK/PCINT5) (io), 16 AVCC (power), 17 AREF (power), 18 GND (power), 19 PC0 (ADC0/PCINT8) (io), 20 PC1 (ADC1/PCINT9) (io), 21 PC2 (ADC2/PCINT10) (io), 22 PC3 (ADC3/PCINT11) (io), 23 PC4 (ADC4/SDA/PCINT12) (io), 24 PC5 (ADC5/SCL/PCINT13) (io), 25 PC6 (~{RESET}/PCINT14) (io), 26 PD0 (RXD/PCINT16) (io), 27 PD1 (TXD/PCINT17) (io), 28 PD2 (INT0/PCINT18) (io), 29 DAP (power)

## ATmega48PA-MMNR
designator U?
8-bit AVR Microcontroller, 4KB Flash, 256 Bytes EEPROM, 512 Bytes SRAM, 28-pin VQFN, Industrial Grade (-40°C to 105°C), Reel; DatasheetVersion: revD, May-2011; PackageVersion: revB, Nov-2008; PackageReference: 28M1; PackageDescription: 28-pad, 4x4x1.0mm Body, Pitch 0.45mm, 2.4x2.4mm Exposed Pad, Plastic Very Thin QFN Package (VQFN); ComponentLink1Description: Manufacturer URL; ComponentLink1URL: http://www.atmel.com/; ComponentLink2Description: ATmega48A/48PA/88A/88PA/168A/168PA/328/328P Datasheet; ComponentLink2URL: http://www.atmel.com/dyn/resources/prod_documents/8271.pdf; ComponentLink3Description: ATmega48A/48PA/88A/88PA/168A/168PA/328/328P Summary; ComponentLink3URL: http://www.atmel.com/dyn/resources/prod_documents/8271S.pdf
footprint 28M1_N (QFN, 28-Leads, Body 4x4mm, Pitch 0.45mm, Thermal Pad 2.5x2.5mm, IPC Medium Density)
footprint 28M1_L (QFN, 28-Leads, Body 4x4mm, Pitch 0.45mm, Thermal Pad 2.5x2.5mm, IPC High Density)
footprint 28M1_M (QFN, 28-Leads, Body 4x4mm, Pitch 0.45mm, Thermal Pad 2.5x2.5mm, IPC Low Density)
pins: 1 PD3 (PCINT19/OC2B/INT1) (io), 2 PD4 (PCINT20/XCK/T0) (io), 3 VCC (power), 4 GND (power), 5 PB6 (PCINT6/XTAL1/TOSC1) (io), 6 PB7 (PCINT7/XTAL2/TOSC2) (io), 7 PD5 (PCINT21/OC0B/T1) (io), 8 PD6 (PCINT22/OC0A/AIN0) (io), 9 PD7 (PCINT23/AIN1) (io), 10 PB0 (PCINT0/CLKO/ICP1) (io), 11 PB1 (PCINT1/OC1A) (io), 12 PB2 (PCINT2/~{SS}/OC1B) (io), 13 PB3 (PCINT3/OC2A/MOSI) (io), 14 PB4 (PCINT4/MISO) (io), 15 PB5 (SCK/PCINT5) (io), 16 AVCC (power), 17 AREF (power), 18 GND (power), 19 PC0 (ADC0/PCINT8) (io), 20 PC1 (ADC1/PCINT9) (io), 21 PC2 (ADC2/PCINT10) (io), 22 PC3 (ADC3/PCINT11) (io), 23 PC4 (ADC4/SDA/PCINT12) (io), 24 PC5 (ADC5/SCL/PCINT13) (io), 25 PC6 (~{RESET}/PCINT14) (io), 26 PD0 (RXD/PCINT16) (io), 27 PD1 (TXD/PCINT17) (io), 28 PD2 (INT0/PCINT18) (io), 29 DAP (power)

## ATmega48PA-MN
designator U?
8-bit AVR Microcontroller, 4KB Flash, 256 Bytes EEPROM, 512 Bytes SRAM, 32-pin MLF, Industrial Grade (-40°C to 105°C); DatasheetVersion: revD, May-2011; PackageVersion: revE, May-2006; PackageReference: 32M1-A; PackageDescription: 32-Pin Micro Lead Frame Package (MLF),  5 x 5 x 1.0 mm Body, Pitch 0.50 mm, 3.10mm Exposed Pad; Code_JEDEC: MO-220-VHHD-2; ComponentLink1Description: Manufacturer URL; ComponentLink1URL: http://www.atmel.com/; ComponentLink2Description: ATmega48A/48PA/88A/88PA/168A/168PA/328/328P Datasheet; ComponentLink2URL: http://www.atmel.com/dyn/resources/prod_documents/8271.pdf; ComponentLink3Description: ATmega48A/48PA/88A/88PA/168A/168PA/328/328P Summary; ComponentLink3URL: http://www.atmel.com/dyn/resources/prod_documents/8271S.pdf
footprint 32M1-A_N (QFN, 32-Leads, Body 5x5mm, Pitch 0.5mm, Thermal Pad 3.3x3.3mm, IPC Medium Density)
footprint 32M1-A_L (QFN, 32-Leads, Body 5x5mm, Pitch 0.5mm, Thermal Pad 3.3x3.3mm, IPC High Density)
footprint 32M1-A_M (QFN, 32-Leads, Body 5x5mm, Pitch 0.5mm, Thermal Pad 3.3x3.3mm, IPC Low Density)
pins: 1 PD3 (PCINT19/OC2B/INT1) (io), 2 PD4 (PCINT20/XCK/T0) (io), 3 GND (power), 4 VCC (power), 5 GND (power), 6 VCC (power), 7 PB6 (PCINT6/XTAL1/TOSC1) (io), 8 PB7 (PCINT7/XTAL2/TOSC2) (io), 9 PD5 (PCINT21/OC0B/T1) (io), 10 PD6 (PCINT22/OC0A/AIN0) (io), 11 PD7 (PCINT23/AIN1) (io), 12 PB0 (PCINT0/CLKO/ICP1) (io), 13 PB1 (PCINT1/OC1A) (io), 14 PB2 (PCINT2/~{SS}/OC1B) (io), 15 PB3 (PCINT3/OC2A/MOSI) (io), 16 PB4 (PCINT4/MISO) (io), 17 PB5 (SCK/PCINT5) (io), 18 AVCC (power), 19 ADC6 (in), 20 AREF, 21 GND (power), 22 ADC7 (in), 23 PC0 (ADC0/PCINT8) (io), 24 PC1 (ADC1/PCINT9) (io), 25 PC2 (ADC2/PCINT10) (io), 26 PC3 (ADC3/PCINT11) (io), 27 PC4 (ADC4/SDA/PCINT12) (io), 28 PC5 (ADC5/SCL/PCINT13) (io), 29 PC6 (~{RESET}/PCINT14) (io), 30 PD0 (RXD/PCINT16) (io), 31 PD1 (TXD/PCINT17) (io), 32 PD2 (INT0/PCINT18) (io), 33 DAP (power)

## ATmega48PA-MNR
designator U?
8-bit AVR Microcontroller, 4KB Flash, 256 Bytes EEPROM, 512 Bytes SRAM, 32-pin MLF, Industrial Grade (-40°C to 105°C), Reel; DatasheetVersion: revD, May-2011; PackageVersion: revE, May-2006; PackageReference: 32M1-A; PackageDescription: 32-Pin Micro Lead Frame Package (MLF),  5 x 5 x 1.0 mm Body, Pitch 0.50 mm, 3.10mm Exposed Pad; Code_JEDEC: MO-220-VHHD-2; ComponentLink1Description: Manufacturer URL; ComponentLink1URL: http://www.atmel.com/; ComponentLink2Description: ATmega48A/48PA/88A/88PA/168A/168PA/328/328P Datasheet; ComponentLink2URL: http://www.atmel.com/dyn/resources/prod_documents/8271.pdf; ComponentLink3Description: ATmega48A/48PA/88A/88PA/168A/168PA/328/328P Summary; ComponentLink3URL: http://www.atmel.com/dyn/resources/prod_documents/8271S.pdf
footprint 32M1-A_N (QFN, 32-Leads, Body 5x5mm, Pitch 0.5mm, Thermal Pad 3.3x3.3mm, IPC Medium Density)
footprint 32M1-A_L (QFN, 32-Leads, Body 5x5mm, Pitch 0.5mm, Thermal Pad 3.3x3.3mm, IPC High Density)
footprint 32M1-A_M (QFN, 32-Leads, Body 5x5mm, Pitch 0.5mm, Thermal Pad 3.3x3.3mm, IPC Low Density)
pins: 1 PD3 (PCINT19/OC2B/INT1) (io), 2 PD4 (PCINT20/XCK/T0) (io), 3 GND (power), 4 VCC (power), 5 GND (power), 6 VCC (power), 7 PB6 (PCINT6/XTAL1/TOSC1) (io), 8 PB7 (PCINT7/XTAL2/TOSC2) (io), 9 PD5 (PCINT21/OC0B/T1) (io), 10 PD6 (PCINT22/OC0A/AIN0) (io), 11 PD7 (PCINT23/AIN1) (io), 12 PB0 (PCINT0/CLKO/ICP1) (io), 13 PB1 (PCINT1/OC1A) (io), 14 PB2 (PCINT2/~{SS}/OC1B) (io), 15 PB3 (PCINT3/OC2A/MOSI) (io), 16 PB4 (PCINT4/MISO) (io), 17 PB5 (SCK/PCINT5) (io), 18 AVCC (power), 19 ADC6 (in), 20 AREF, 21 GND (power), 22 ADC7 (in), 23 PC0 (ADC0/PCINT8) (io), 24 PC1 (ADC1/PCINT9) (io), 25 PC2 (ADC2/PCINT10) (io), 26 PC3 (ADC3/PCINT11) (io), 27 PC4 (ADC4/SDA/PCINT12) (io), 28 PC5 (ADC5/SCL/PCINT13) (io), 29 PC6 (~{RESET}/PCINT14) (io), 30 PD0 (RXD/PCINT16) (io), 31 PD1 (TXD/PCINT17) (io), 32 PD2 (INT0/PCINT18) (io), 33 DAP (power)

## ATmega48PA-MU
designator U?
8-bit AVR Microcontroller, 4KB Flash, 256 Bytes EEPROM, 512 Bytes SRAM, 32-pin MLF, Industrial Grade (-40°C to 85°C); DatasheetVersion: revD, May-2011; PackageVersion: revE, May-2006; PackageReference: 32M1-A; PackageDescription: 32-Pin Micro Lead Frame Package (MLF),  5 x 5 x 1.0 mm Body, Pitch 0.50 mm, 3.10mm Exposed Pad; Code_JEDEC: MO-220-VHHD-2; ComponentLink1Description: Manufacturer URL; ComponentLink1URL: http://www.atmel.com/; ComponentLink2Description: ATmega48A/48PA/88A/88PA/168A/168PA/328/328P Datasheet; ComponentLink2URL: http://www.atmel.com/dyn/resources/prod_documents/8271.pdf; ComponentLink3Description: ATmega48A/48PA/88A/88PA/168A/168PA/328/328P Summary; ComponentLink3URL: http://www.atmel.com/dyn/resources/prod_documents/8271S.pdf
footprint 32M1-A_N (QFN, 32-Leads, Body 5x5mm, Pitch 0.5mm, Thermal Pad 3.3x3.3mm, IPC Medium Density)
footprint 32M1-A_L (QFN, 32-Leads, Body 5x5mm, Pitch 0.5mm, Thermal Pad 3.3x3.3mm, IPC High Density)
footprint 32M1-A_M (QFN, 32-Leads, Body 5x5mm, Pitch 0.5mm, Thermal Pad 3.3x3.3mm, IPC Low Density)
pins: 1 PD3 (PCINT19/OC2B/INT1) (io), 2 PD4 (PCINT20/XCK/T0) (io), 3 GND (power), 4 VCC (power), 5 GND (power), 6 VCC (power), 7 PB6 (PCINT6/XTAL1/TOSC1) (io), 8 PB7 (PCINT7/XTAL2/TOSC2) (io), 9 PD5 (PCINT21/OC0B/T1) (io), 10 PD6 (PCINT22/OC0A/AIN0) (io), 11 PD7 (PCINT23/AIN1) (io), 12 PB0 (PCINT0/CLKO/ICP1) (io), 13 PB1 (PCINT1/OC1A) (io), 14 PB2 (PCINT2/~{SS}/OC1B) (io), 15 PB3 (PCINT3/OC2A/MOSI) (io), 16 PB4 (PCINT4/MISO) (io), 17 PB5 (SCK/PCINT5) (io), 18 AVCC (power), 19 ADC6 (in), 20 AREF, 21 GND (power), 22 ADC7 (in), 23 PC0 (ADC0/PCINT8) (io), 24 PC1 (ADC1/PCINT9) (io), 25 PC2 (ADC2/PCINT10) (io), 26 PC3 (ADC3/PCINT11) (io), 27 PC4 (ADC4/SDA/PCINT12) (io), 28 PC5 (ADC5/SCL/PCINT13) (io), 29 PC6 (~{RESET}/PCINT14) (io), 30 PD0 (RXD/PCINT16) (io), 31 PD1 (TXD/PCINT17) (io), 32 PD2 (INT0/PCINT18) (io), 33 DAP (power)

## ATmega48PA-MUR
designator U?
8-bit AVR Microcontroller, 4KB Flash, 256 Bytes EEPROM, 512 Bytes SRAM, 32-pin MLF, Industrial Grade (-40°C to 85°C), Reel; DatasheetVersion: revD, May-2011; PackageVersion: revE, May-2006; PackageReference: 32M1-A; PackageDescription: 32-Pin Micro Lead Frame Package (MLF),  5 x 5 x 1.0 mm Body, Pitch 0.50 mm, 3.10mm Exposed Pad; Code_JEDEC: MO-220-VHHD-2; ComponentLink1Description: Manufacturer URL; ComponentLink1URL: http://www.atmel.com/; ComponentLink2Description: ATmega48A/48PA/88A/88PA/168A/168PA/328/328P Datasheet; ComponentLink2URL: http://www.atmel.com/dyn/resources/prod_documents/8271.pdf; ComponentLink3Description: ATmega48A/48PA/88A/88PA/168A/168PA/328/328P Summary; ComponentLink3URL: http://www.atmel.com/dyn/resources/prod_documents/8271S.pdf
footprint 32M1-A_N (QFN, 32-Leads, Body 5x5mm, Pitch 0.5mm, Thermal Pad 3.3x3.3mm, IPC Medium Density)
footprint 32M1-A_L (QFN, 32-Leads, Body 5x5mm, Pitch 0.5mm, Thermal Pad 3.3x3.3mm, IPC High Density)
footprint 32M1-A_M (QFN, 32-Leads, Body 5x5mm, Pitch 0.5mm, Thermal Pad 3.3x3.3mm, IPC Low Density)
pins: 1 PD3 (PCINT19/OC2B/INT1) (io), 2 PD4 (PCINT20/XCK/T0) (io), 3 GND (power), 4 VCC (power), 5 GND (power), 6 VCC (power), 7 PB6 (PCINT6/XTAL1/TOSC1) (io), 8 PB7 (PCINT7/XTAL2/TOSC2) (io), 9 PD5 (PCINT21/OC0B/T1) (io), 10 PD6 (PCINT22/OC0A/AIN0) (io), 11 PD7 (PCINT23/AIN1) (io), 12 PB0 (PCINT0/CLKO/ICP1) (io), 13 PB1 (PCINT1/OC1A) (io), 14 PB2 (PCINT2/~{SS}/OC1B) (io), 15 PB3 (PCINT3/OC2A/MOSI) (io), 16 PB4 (PCINT4/MISO) (io), 17 PB5 (SCK/PCINT5) (io), 18 AVCC (power), 19 ADC6 (in), 20 AREF, 21 GND (power), 22 ADC7 (in), 23 PC0 (ADC0/PCINT8) (io), 24 PC1 (ADC1/PCINT9) (io), 25 PC2 (ADC2/PCINT10) (io), 26 PC3 (ADC3/PCINT11) (io), 27 PC4 (ADC4/SDA/PCINT12) (io), 28 PC5 (ADC5/SCL/PCINT13) (io), 29 PC6 (~{RESET}/PCINT14) (io), 30 PD0 (RXD/PCINT16) (io), 31 PD1 (TXD/PCINT17) (io), 32 PD2 (INT0/PCINT18) (io), 33 DAP (power)

## ATmega48PA-PN
designator U?
8-bit AVR Microcontroller, 4KB Flash, 256 Bytes EEPROM, 512 Bytes SRAM, 28-pin PDIP, Industrial Grade (-40°C to 105°C); DatasheetVersion: revD, May-2011; PackageVersion: revB, Sep-2001; PackageReference: 28P3; PackageDescription: 28-lead (0.300"/7.62mm Wide) Plastic Dual Inline Package (PDIP); ComponentLink1Description: Manufacturer URL; ComponentLink1URL: http://www.atmel.com/; ComponentLink2Description: ATmega48A/48PA/88A/88PA/168A/168PA/328/328P Datasheet; ComponentLink2URL: http://www.atmel.com/dyn/resources/prod_documents/8271.pdf; ComponentLink3Description: ATmega48A/48PA/88A/88PA/168A/168PA/328/328P Summary; ComponentLink3URL: http://www.atmel.com/dyn/resources/prod_documents/8271S.pdf
footprint 28P3 (DIP, 28-Leads, Row Spacing 7.62mm, Pitch 2.54mm, Body 34.67x7.3mm)
pins: 1 PC6 (PCINT14/~{RESET}) (io), 2 PD0 (PCINT16/RXD) (io), 3 PD1 (PCINT17/TXD) (io), 4 PD2 (PCINT18/INT0) (io), 5 PD3 (PCINT19/OC2B/INT1) (io), 6 PD4 (PCINT20/XCK/T0) (io), 7 VCC (power), 8 GND (power), 9 PB6 (PCINT6/XTAL1/TOSC1) (io), 10 PB7 (PCINT7/XTAL2/TOSC2) (io), 11 PD5 (PCINT21/OC0B/T1) (io), 12 PD6 (PCINT22/OC0A/AIN0) (io), 13 PD7 (PCINT23/AIN1) (io), 14 PB0 (PCINT0/CLKO/ICP1) (io), 15 PB1 (OC1A/PCINT1) (io), 16 PB2 (~{SS}/OC1B/PCINT2) (io), 17 PB3 (MOSI/OC2A/PCINT3) (io), 18 PB4 (MISO/PCINT4) (io), 19 PB5 (SCK/PCINT5) (io), 20 AVCC (power), 21 AREF (power), 22 GND (power), 23 PC0 (ADC0/PCINT8) (io), 24 PC1 (ADC1/PCINT9) (io), 25 PC2 (ADC2/PCINT10) (io), 26 PC3 (ADC3/PCINT11) (io), 27 PC4 (ADC4/SDA/PCINT12) (io), 28 PC5 (ADC5/SCL/PCINT13) (io)

## ATmega48PA-PU
designator U?
8-bit AVR Microcontroller, 4KB Flash, 256 Bytes EEPROM, 512 Bytes SRAM, 28-pin PDIP, Industrial Grade (-40°C to 85°C); DatasheetVersion: revD, May-2011; PackageVersion: revB, Sep-2001; PackageReference: 28P3; PackageDescription: 28-lead (0.300"/7.62mm Wide) Plastic Dual Inline Package (PDIP); ComponentLink1Description: Manufacturer URL; ComponentLink1URL: http://www.atmel.com/; ComponentLink2Description: ATmega48A/48PA/88A/88PA/168A/168PA/328/328P Datasheet; ComponentLink2URL: http://www.atmel.com/dyn/resources/prod_documents/8271.pdf; ComponentLink3Description: ATmega48A/48PA/88A/88PA/168A/168PA/328/328P Summary; ComponentLink3URL: http://www.atmel.com/dyn/resources/prod_documents/8271S.pdf
footprint 28P3 (DIP, 28-Leads, Row Spacing 7.62mm, Pitch 2.54mm, Body 34.67x7.3mm)
pins: 1 PC6 (PCINT14/~{RESET}) (io), 2 PD0 (PCINT16/RXD) (io), 3 PD1 (PCINT17/TXD) (io), 4 PD2 (PCINT18/INT0) (io), 5 PD3 (PCINT19/OC2B/INT1) (io), 6 PD4 (PCINT20/XCK/T0) (io), 7 VCC (power), 8 GND (power), 9 PB6 (PCINT6/XTAL1/TOSC1) (io), 10 PB7 (PCINT7/XTAL2/TOSC2) (io), 11 PD5 (PCINT21/OC0B/T1) (io), 12 PD6 (PCINT22/OC0A/AIN0) (io), 13 PD7 (PCINT23/AIN1) (io), 14 PB0 (PCINT0/CLKO/ICP1) (io), 15 PB1 (OC1A/PCINT1) (io), 16 PB2 (~{SS}/OC1B/PCINT2) (io), 17 PB3 (MOSI/OC2A/PCINT3) (io), 18 PB4 (MISO/PCINT4) (io), 19 PB5 (SCK/PCINT5) (io), 20 AVCC (power), 21 AREF (power), 22 GND (power), 23 PC0 (ADC0/PCINT8) (io), 24 PC1 (ADC1/PCINT9) (io), 25 PC2 (ADC2/PCINT10) (io), 26 PC3 (ADC3/PCINT11) (io), 27 PC4 (ADC4/SDA/PCINT12) (io), 28 PC5 (ADC5/SCL/PCINT13) (io)